# EAGLE library part MC34063A (library on-semiconductor)
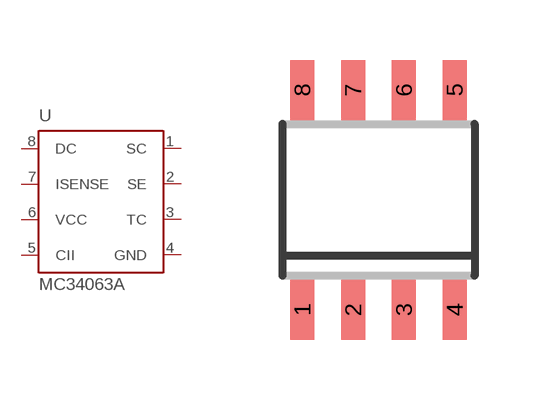
[diagram p9: symbol with the pads of SOIC8; footprint SOIC8]

Designator prefix -

## MC34063A  [SOIC8]
1  SC  pwr
2  SE  oc
3  TC  oc
4  GND  pwr
5  CII  in
6  VCC  in
7  ISENSE  in
8  DC  out

## Footprint SOIC8 (pad centres in mm)
SOIC-8 CASE 751-07 Source: http://www.onsemi.com/pub/Collateral/MC34164-D.PDF D (R-PDSO-G8)PLATIC SMALL-OUTLINE PACKAGE Source: http://focus.ti.com/lit/ds/symlink/tlc27l2.pdf
smd 0.6 x 1.5: 1 -1.905,-2.75; 2 -0.635,-2.75; 3 0.635,-2.75; 4 1.905,-2.75; 5 1.905,2.75; 6 0.635,2.75; 7 -0.635,2.75; 8 -1.905,2.75